# EAGLE library part SN74LV8151 (library Fitch_Eagle_Library)
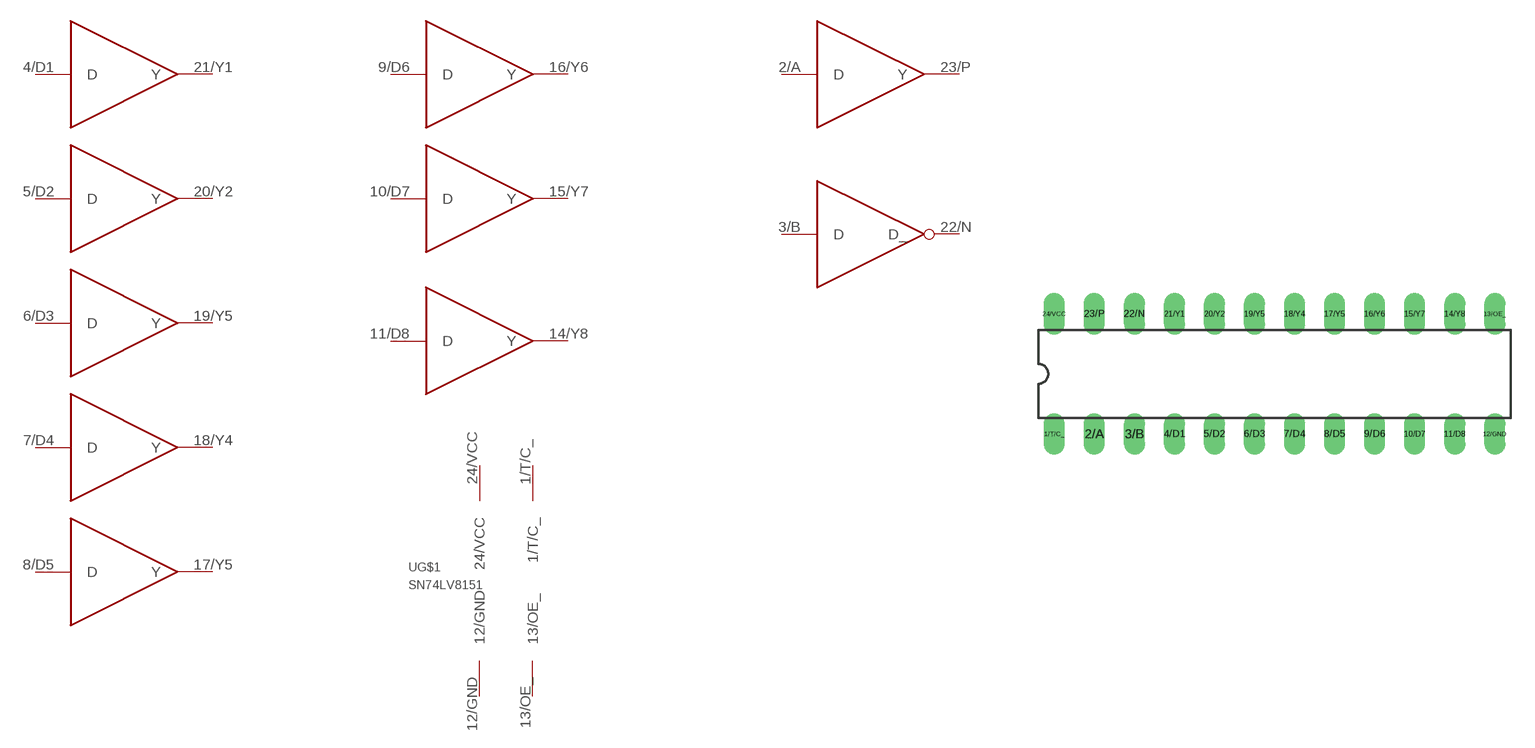
[diagram p8: symbol with the pads of SN74LV8151; footprint SN74LV8151]

Designator prefix -; gates 8151_A=BUFFER 8151_B=BUFFER 8151_C=BUFFER 8151_D=BUFFER 8151_E=BUFFER 8151_F=BUFFER 8151_G=BUFFER 8151_H=BUFFER G$1=SN74LV8151_AUX AP_BUFF=BUFFER BN_BUFF_INVT=BUFFER_INVT

## SN74LV8151  [SN74LV8151]
1/T/C_  G$1:1/T/C_
2/A  AP_BUFF:D
3/B  BN_BUFF_INVT:D
4/D1  8151_A:D
5/D2  8151_B:D
6/D3  8151_C:D
7/D4  8151_D:D
8/D5  8151_E:D
9/D6  8151_F:D
10/D7  8151_G:D
11/D8  8151_H:D
12/GND  G$1:12/GND
13/OE_  G$1:13/OE_
14/Y8  8151_H:Y
15/Y7  8151_G:Y
16/Y6  8151_F:Y
17/Y5  8151_E:Y
18/Y4  8151_D:Y
19/Y5  8151_C:Y
20/Y2  8151_B:Y
21/Y1  8151_A:Y
22/N  BN_BUFF_INVT:D_
23/P  AP_BUFF:Y
24/VCC  G$1:24/VCC

## Footprint SN74LV8151 (pad centres in mm)
drill 0.813 long: 1/T/C_ -12.7,-3.81; 2/A -10.16,-3.81; 3/B -7.62,-3.81; 4/D1 -5.08,-3.81; 5/D2 -2.54,-3.81; 6/D3 0,-3.81; 7/D4 2.54,-3.81; 8/D5 5.08,-3.81; 9/D6 7.62,-3.81; 10/D7 10.16,-3.81; 11/D8 12.7,-3.81; 12/GND 15.24,-3.81; 13/OE_ 15.24,3.81; 14/Y8 12.7,3.81; 15/Y7 10.16,3.81; 16/Y6 7.62,3.81; 17/Y5 5.08,3.81; 18/Y4 2.54,3.81; 19/Y5 0,3.81; 20/Y2 -2.54,3.81; 21/Y1 -5.08,3.81; 22/N -7.62,3.81; 23/P -10.16,3.81; 24/VCC -12.7,3.81